# Altium schematic symbol library SRP6530A-8R2M.SchLib: 1 symbol
Pins are listed as number, name and electrical type; pins without a type are passive.

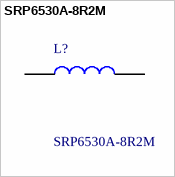
[diagram p0: symbol SRP6530A-8R2M]

## SRP6530A-8R2M
designator L?
Ind,7.1x6.6x3mm,8.2uH+/-20%,5A,shd; Manufacturer_Name: Bourns; Geometry.Height: 3mm; Farnell Part Number: *; Farnell Price/Stock: *; Manufacturer_Part_Number: SRP6530A-8R2M; Datasheet Link: http://www.bourns.com/docs/Product-Datasheets/SRP6530A.pdf
footprint INDPM7166X300N
pins: 1, 2